# Altium footprint library 28Pin_pcblib.PcbLib: 22 footprints (part 2 of 2)
Each footprint in its own frame and in the unit in brackets; x right, y up, seen from the top. Pads: shape width x height; smd on the part's side, far side on the other; paste and mask are expansions set on the pad; w line width, h text height; cw(c..) or ccw(c..) is an arc to the next point about the centre after c.
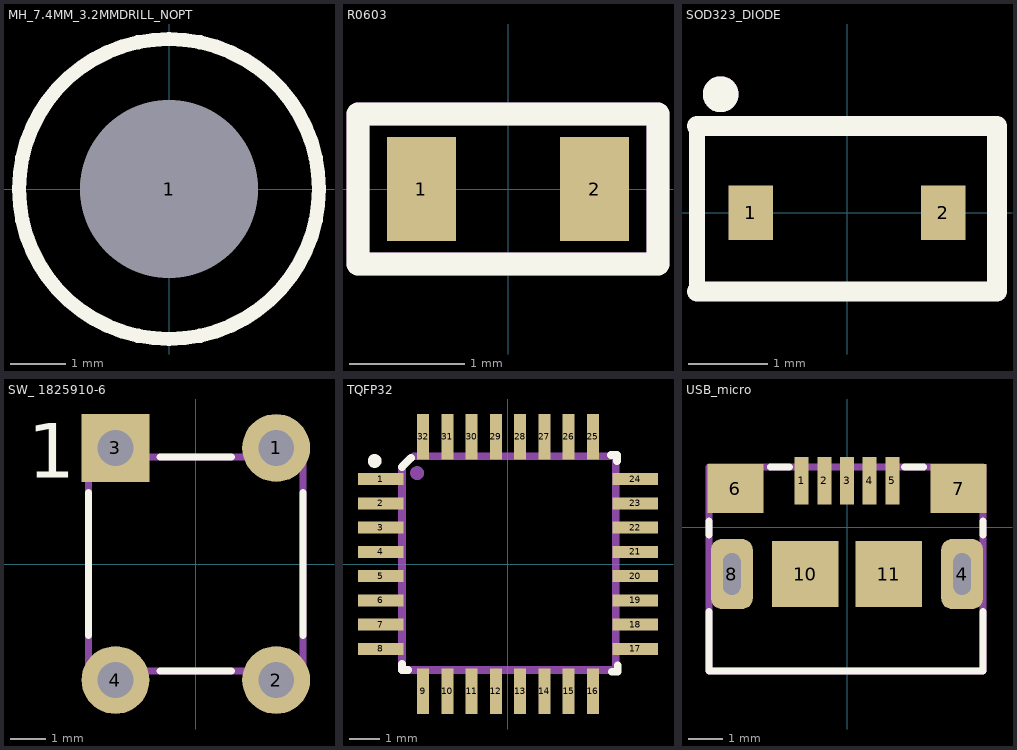
[diagram p1: the footprints below, top view; thin cyan lines are the x and y axes]

## MH_7.4MM_3.2MMDRILL_NOPT [mm]
pads (1):
  round 3.2 hole 3.2 unplated: 1(0,0)
Top Overlay:
  circle w0.254: c0,0 r2.704

## R0603 [mm]
pads (2):
  rect 0.6x0.9 smd: 1(-0.75,0) 2(0.75,0)
Top Overlay:
  lines w0.2: -1.3,-0.65 -1.3,0.65 1.3,0.65 1.3,-0.65 -1.3,-0.65
Mechanical 29:
  lines w0.2: -1.3,-0.65 -1.3,0.65 1.3,0.65 1.3,-0.65 -1.3,-0.65
  text ".Designator" at -1.5,-0.514 h1.52
3D body "R0603.step": height 0.75, standoff -0.05, extent -0.8,-0.44 0.8,0.4

## SOD323_DIODE [mil]
pads (2):
  rect 22x27 smd: 1(-48,0) 2(48,0)
Top Overlay:
  circle w10: c-62.99,59.06 r3.94
  lines w7.87: -74.8,-39.37 -74.8,43.31
  lines w10: -74.8,-39.37 74.8,-39.37 74.8,43.31 -74.8,43.31
Mechanical 29:
  circle w10: c-62.99,59.06 r3.94
  lines w7.87: -74.8,-39.37 -74.8,43.31 74.8,43.31 74.8,-39.37 -74.8,-39.37
3D body "CR_SOD-323_2L_ONS.step": height 43.11, standoff 0, extent -50.98,-26.49 50.99,26.5

## SW_ 1825910-6 [mm]
pads (4):
  round 1.9 hole 1: 1(2.25,3.25) 2(2.25,-3.25) 4(-2.25,-3.25)
  rect 1.9x1.9 hole 1: 3(-2.25,3.25)
Top Overlay:
  lines w0.2: -3,-2 -3,2 ; -1,-3 1,-3 ; 0,3 -1,3 1,3 ; 3,-2 3,2 3,0
  text "1" at -4.699,2.413 h1.52
Mechanical 29:
  circle w0.254: c-2.3,3.4 r0.2
  lines w0.2: 3,-2 3,3 -3,3 -3,-3 3,-3 3,-1.4
3D body "1825910-6--3DModel-STEP-1.STEP": height 5.02, standoff -3.5, extent -2.99,-3.899 3,3.899

## TQFP32 [mm]
pads (32):
  rect 1.5x0.4 smd: 1(-4.2,2.8) 2(-4.2,2) 3(-4.2,1.2) 4(-4.2,0.4) 5(-4.2,-0.4) 6(-4.2,-1.2) 7(-4.2,-2) 8(-4.2,-2.8) 17(4.2,-2.8) 18(4.2,-2) 19(4.2,-1.2) 20(4.2,-0.4) 21(4.2,0.4) 22(4.2,1.2) 23(4.2,2) 24(4.2,2.8)
  rect 0.4x1.5 smd: 9(-2.8,-4.2) 10(-2,-4.2) 11(-1.2,-4.2) 12(-0.4,-4.2) 13(0.4,-4.2) 14(1.2,-4.2) 15(2,-4.2) 16(2.8,-4.2) 25(2.8,4.2) 26(2,4.2) 27(1.2,4.2) 28(0.4,4.2) 29(-0.4,4.2) 30(-1.2,4.2) 31(-2,4.2) 32(-2.8,4.2)
Top Overlay:
  circle w0.254: c-4.4,3.4 r0.1
  lines w0.254: -3.5,-3.3 -3.5,-3.5 -3.3,-3.5 ; -3.5,3.2 -3.2,3.5 ; 3.4,3.6 3.6,3.6 3.6,3.4 ; 3.421,-3.551 3.621,-3.551 3.621,-3.351
Mechanical 29:
  circle w0.254: c-3,3 r0.1
  lines w0.254: -3.5,3.2 -3.5,-3.5 3.556,-3.5 3.556,3.556 -3.1,3.556
  text ".Designator" at -1.646,-0.538 h1.52
3D body "User Library-tqfp32.step": height 1.2, standoff 0, extent -4.599,-4.599 4.6,4.599

## USB_micro [mm]
pads (11):
  rect 0.4x1.35 smd mask+0.05: 1(-1.3,1.338) 2(-0.65,1.338) 3(0,1.338) 4(0.65,1.338) 5(1.3,1.338)
  rrect50% 1.2x2 hole 0.5 slot 1.2 at 90 deg mask+0.05: 4(3.3,-1.338) 8(-3.3,-1.338)
  rect 1.6x1.4 smd: 6(-3.2,1.112) 7(3.2,1.112)
  rect 1.9x1.9 smd mask+0.05: 10(-1.2,-1.338) 11(1.2,-1.338)
Top Layer:
  text ".Designator" at -5.596,-3.988 h1.52
Top Overlay:
  lines w0.2: -3.95,-2.412 -3.95,-4.112 3.9,-4.112 3.9,-2.412 ; -3.95,-0.212 -3.95,0.188 ; -2.2,1.737 -1.65,1.737 ; 1.65,1.737 2.2,1.737 ; 3.9,-0.212 3.9,0.188
Mechanical 29:
  lines w0.2: -3.95,-2.562 -3.95,1.737 ; 3.85,-4.112 -3.95,-4.112 -3.95,1.737 ; 3.9,-4.112 3.9,1.737 -3.95,1.737
3D body "10118193-0001LF--3DModel-STEP-56544.STEP": height 2.81, standoff -0.79, extent -3.93,-4.073 3.93,1.637
3D body: height 3.53, standoff -3.53, extent -6,3.638 -6,3.638